# Altium schematic symbol library SnapEDAsch.SchLib: 1 symbol
Pins are listed as number, name and electrical type; pins without a type are passive.

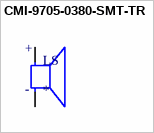
[diagram p0: symbol CMI-9705-0380-SMT-TR]

## CMI-9705-0380-SMT-TR
designator LS
9.7 mm, 3 Vdc, 80 dB, Surface Mount, Driving Circuit, Magnetic Audio Indicator Buzzer; MF: CUI Devices; MP: CMI-9705-0380-SMT-TR; Value: *; CUI_purchase_URL: https://www.cuidevices.com/product/audio/buzzers/audio-indicators/cmi-9705-0380-smt-tr?utm_source=snapeda.com&utm_medium=referral&utm_campaign=snapedaBOM; Price: None; Package: CUI Inc.; SnapEDA_Link: https://www.snapeda.com/parts/CMI-9705-0380-SMT-TR/CUI%20Devices/view-part/3662541/?ref=snap; Availability: Unavailable
footprint CUI_CMI-9705-0380-SMT-TR
footprint CUI_CMI-9705-0380-SMT-TR
pins: N, P
text: +; -